# Altium schematic symbol library 100068622_rail_discharge.SchLib: 4 symbols
Pins are listed as number, name and electrical type; pins without a type are passive.

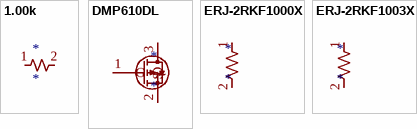
[diagram p0: symbols 1.00k to ERJ-2RKF1003X]

## 1.00k
designator *
pins: 1, 2

## DMP610DL
designator *
pins: 1 G, 2 S, 3 D

## ERJ-2RKF1000X
designator *
pins: 1, 2

## ERJ-2RKF1003X
designator *
pins: 1, 2